# Altium schematic symbol library TPS259460ARPWR.SchLib: 1 symbol
Pins are listed as number, name and electrical type; pins without a type are passive.

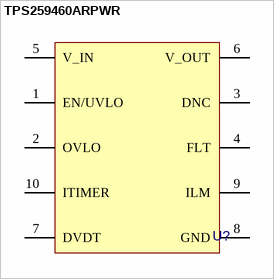
[diagram p0: symbol TPS259460ARPWR]

## TPS259460ARPWR
designator U?  (value not drawn)
pins: 1 EN/UVLO, 2 OVLO, 3 DNC, 4 FLT "FLT/PGTH", 5 V_IN, 6 V_OUT, 7 DVDT, 8 GND, 9 ILM, 10 ITIMER